# Altium footprint library SS-12D10拨码开关.PcbLib: 1 footprints
Each footprint in its own frame and in the unit in brackets; x right, y up, seen from the top. Pads: shape width x height; smd on the part's side, far side on the other; paste and mask are expansions set on the pad; w line width, h text height; cw(c..) or ccw(c..) is an arc to the next point about the centre after c.
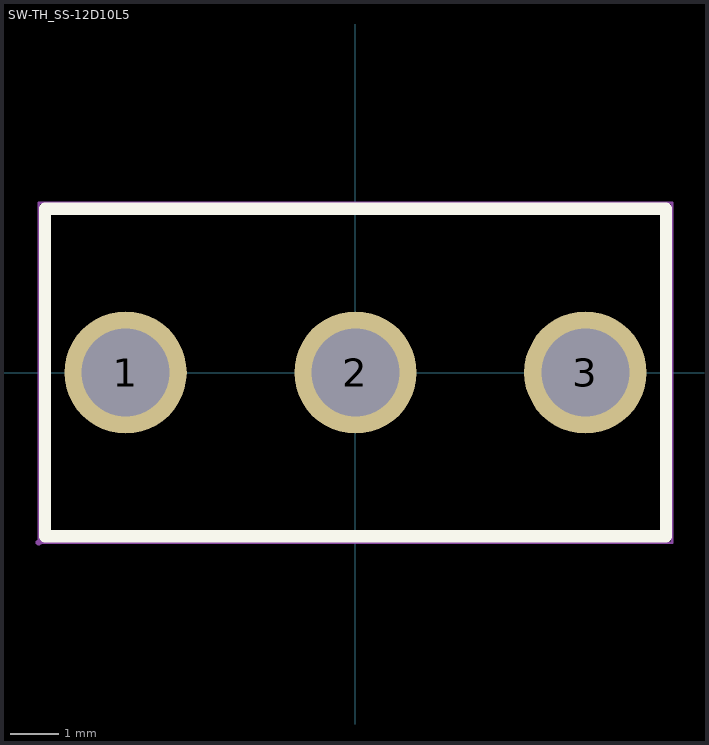
[diagram p0: the footprint, top view; thin cyan lines are the x and y axes]

## SW-TH_SS-12D10L5 [mm]
pads (3):
  round 2.5 hole 1.8: 1(-4.7,0) 2(0,0) 3(4.7,0)
Top Overlay:
  lines w0.254: -6.35,-3.35 6.35,-3.35 6.35,3.35 -6.35,3.35 -6.35,-3.35
Mechanical 15:
  region: -3.9,0 -3.901,0.105 -3.957,0.306 -4.063,0.486 -4.212,0.633 -4.393,0.737 -4.595,0.791 -4.805,0.791 -5.007,0.737 -5.188,0.633 -5.337,0.486 -5.443,0.306 -5.499,0.105 -5.5,0 -5.499,-0.105 -5.443,-0.306 -5.337,-0.486 -5.188,-0.633 -5.007,-0.737 -4.804,-0.791 -4.595,-0.791 -4.393,-0.737 -4.212,-0.633 -4.063,-0.486 -3.957,-0.306 -3.901,-0.105 -3.9,0
  region: 0.8,0 0.799,0.105 0.743,0.306 0.637,0.486 0.488,0.633 0.307,0.737 0.105,0.791 -0.105,0.791 -0.307,0.737 -0.488,0.633 -0.637,0.486 -0.743,0.306 -0.799,0.105 -0.8,0 -0.799,-0.105 -0.743,-0.306 -0.637,-0.486 -0.488,-0.633 -0.307,-0.737 -0.104,-0.791 0.105,-0.791 0.307,-0.737 0.488,-0.633 0.637,-0.486 0.743,-0.306 0.799,-0.105 0.8,0
  region: 5.5,0 5.499,0.105 5.443,0.306 5.337,0.486 5.188,0.633 5.007,0.737 4.805,0.791 4.595,0.791 4.393,0.737 4.212,0.633 4.063,0.486 3.957,0.306 3.901,0.105 3.9,0 3.901,-0.105 3.957,-0.306 4.063,-0.486 4.212,-0.633 4.393,-0.737 4.596,-0.791 4.805,-0.791 5.007,-0.737 5.188,-0.633 5.337,-0.486 5.443,-0.306 5.499,-0.105 5.5,0
  region: -6.417,-3.477 -6.417,-3.452 -6.452,-3.417 -6.502,-3.417 -6.537,-3.452 -6.537,-3.477 -6.537,-3.502 -6.502,-3.537 -6.452,-3.537 -6.417,-3.502 -6.417,-3.477
  lines w0.051: -6.477,-3.477 6.477,-3.477 6.477,3.477 -6.477,3.477 -6.477,-3.477
3D body "SS-12D10.STEP": height 10.29, standoff -6.81, extent -6.547,-3.4 6.454,3.4